# Altium schematic symbol library AP7312-1828W6-7.SchLib: 1 symbol
Pins are listed as number, name and electrical type; pins without a type are passive.

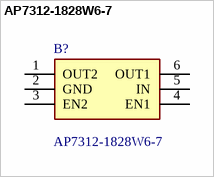
[diagram p0: symbol AP7312-1828W6-7]

## AP7312-1828W6-7
designator B?
DIODES INC. - AP7312-1828W6-7 - LDO Voltage Regulator IC, Fixed, 2 Output, 2 V to 6 V in, 150 mV drop, 150 mA out, SOT-26-6; Manufacturer_Name: Diodes Incorporated; Geometry.Height: 1.45mm; Manufacturer_Part_Number: AP7312-1828W6-7; Mouser Part Number: 621-AP7312-1828W6-7; Mouser Price/Stock: https://www.mouser.co.uk/ProductDetail/Diodes-Incorporated/AP7312-1828W6-7?qs=gfe7vQ8txpXIU2bwoIt1PQ%3D%3D; Arrow Part Number: AP7312-1828W6-7; Arrow Price/Stock: https://www.arrow.com/en/products/ap7312-1828w6-7/diodes-incorporated?utm_currency=USD&region=nac; Datasheet Link: https://www.diodes.com/assets/Datasheets/products_inactive_data/AP7312.pdf
footprint SOT95P285X145-6N
pins: 1 OUT2, 2 GND, 3 EN2, 4 EN1, 5 IN, 6 OUT1